# Altium footprint library Tama_PcbLib.PcbLib: 35 footprints (part 3 of 3)
Each footprint in its own frame and in the unit in brackets; x right, y up, seen from the top. Pads: shape width x height; smd on the part's side, far side on the other; paste and mask are expansions set on the pad; w line width, h text height; cw(c..) or ccw(c..) is an arc to the next point about the centre after c.
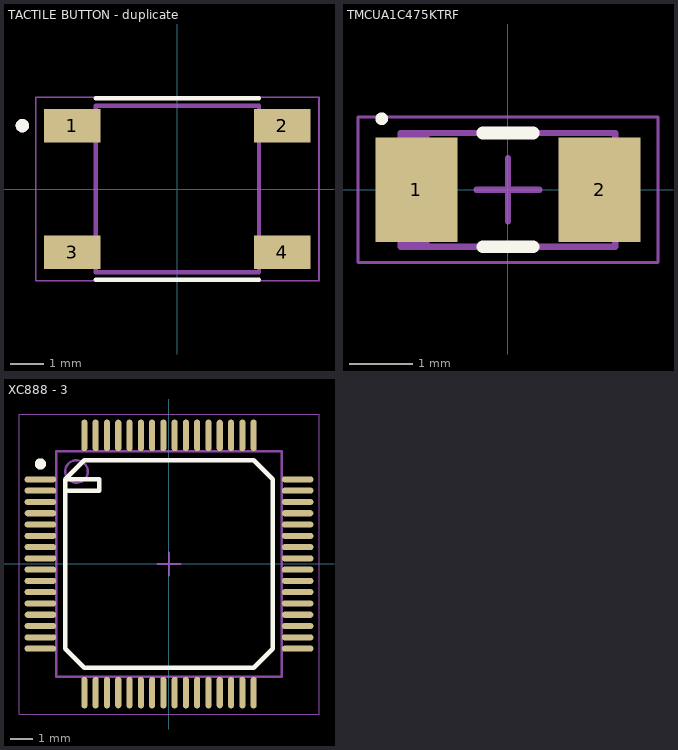
[diagram p2: the footprints below, top view; thin cyan lines are the x and y axes]

## TACTILE BUTTON - duplicate [mm] "Tactile button small"
pads (4):
  rect 1.7x1 smd: 1(-3.15,1.9) 2(3.15,1.9) 3(-3.15,-1.9) 4(3.15,-1.9)
Top Overlay:
  circle w0.2: c-4.65,1.9 r0.1
  lines w0.127: -2.45,-2.72 2.45,-2.72 ; -2.45,2.72 2.45,2.72
Mechanical 13:
  circle w0.2: c-4.65,1.9 r0.1
  lines w0.127: -2.45,-2.5 2.45,-2.5 2.45,2.5 -2.45,2.5 -2.45,-2.5
Mechanical 15:
  lines w0.05: -4.25,-2.75 4.25,-2.75 4.25,2.75 -4.25,2.75 -4.25,-2.75
3D body "8-1437565-0.stp": height 1.5, standoff 0, extent -3.3,-2.5 3.3,2.5

## TMCUA1C475KTRF [mm] "TMCUA1C475KTRF - Molded Capacitor, 2-Leads"
height 1
pads (2):
  rect 1.3x1.65 smd: 1(-1.45,0) 2(1.45,0)
Top Overlay:
  circle w0.1: c-2,1.125 r0.05
  lines w0.2: -0.4,-0.9 0.4,-0.9 ; -0.4,0.9 0.4,0.9
Mechanical 13:
  rectangle: -1.7,-0.9 -1.243,0.9
  lines w0.1: -1.7,-0.9 -1.7,0.9 1.7,0.9 1.7,-0.9 -1.7,-0.9
Mechanical 15:
  lines w0.05: -2.375,-1.15 -2.375,1.15 2.375,1.15 2.375,-1.15 -2.375,-1.15
  lines w0.1: -0.5,0 0.5,0 ; 0,-0.5 0,0.5
3D body "TMCUA1C475KTRF.step": height 1, standoff 0, extent -1.92,-0.9 1.92,0.9

## XC888 - 3 [mm] "XC888 - 64 Pin"
height 1.6
pads (64):
  oval 1.4x0.27 smd: 1(-5.7,3.75) 2(-5.7,3.25) 3(-5.7,2.75) 4(-5.7,2.25) 5(-5.7,1.75) 6(-5.7,1.25) 7(-5.7,0.75) 8(-5.7,0.25) 9(-5.7,-0.25) 10(-5.7,-0.75) 11(-5.7,-1.25) 12(-5.7,-1.75) 13(-5.7,-2.25) 14(-5.7,-2.75) 15(-5.7,-3.25) 16(-5.7,-3.75) 33(5.7,-3.75) 34(5.7,-3.25) 35(5.7,-2.75) 36(5.7,-2.25) 37(5.7,-1.75) 38(5.7,-1.25) 39(5.7,-0.75) 40(5.7,-0.25) 41(5.7,0.25) 42(5.7,0.75) 43(5.7,1.25) 44(5.7,1.75) 45(5.7,2.25) 46(5.7,2.75) 47(5.7,3.25) 48(5.7,3.75)
  oval 0.27x1.4 smd: 17(-3.75,-5.7) 18(-3.25,-5.7) 19(-2.75,-5.7) 20(-2.25,-5.7) 21(-1.75,-5.7) 22(-1.25,-5.7) 23(-0.75,-5.7) 24(-0.25,-5.7) 25(0.25,-5.7) 26(0.75,-5.7) 27(1.25,-5.7) 28(1.75,-5.7) 29(2.25,-5.7) 30(2.75,-5.7) 31(3.25,-5.7) 32(3.75,-5.7) 49(3.75,5.7) 50(3.25,5.7) 51(2.75,5.7) 52(2.25,5.7) 53(1.75,5.7) 54(1.25,5.7) 55(0.75,5.7) 56(0.25,5.7) 57(-0.25,5.7) 58(-0.75,5.7) 59(-1.25,5.7) 60(-1.75,5.7) 61(-2.25,5.7) 62(-2.75,5.7) 63(-3.25,5.7) 64(-3.75,5.7)
Top Overlay:
  circle w0.25: c-5.7,4.435 r0.125
  lines w0.2: -4.6,3.25 -3.1,3.25 -3.1,3.75 -4.6,3.75 ; -4.6,3.75 -3.75,4.6 3.75,4.6 4.6,3.75 4.6,-3.75 3.75,-4.6 -3.75,-4.6 -4.6,-3.75 -4.6,3.75
Mechanical 13:
  circle w0.1: c-4.1,4.1 r0.5
  lines w0.1: -5,-5 5,-5 5,5 -5,5 -5,-5
Mechanical 15:
  lines w0.05: -6.65,-6.65 6.65,-6.65 6.65,6.65 -6.65,6.65 -6.65,-6.65
  lines w0.1: -0.5,0 0.5,0 ; 0,-0.5 0,0.5
3D body "XC888 - 3.step": height 1.51, standoff 0, extent -6,-6 6,6